# EAGLE library part ESCV! (library untitled)
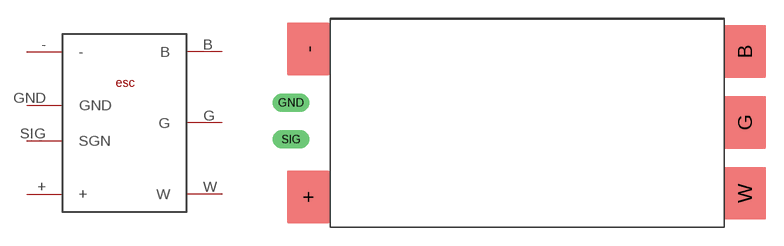
[diagram p0: symbol with the pads of ESCV!; footprint ESCV!]

Designator prefix -

## ESCV!  [ESCV!]
+  +
-  -
B  B
G  G
GND  GND
SIG  SGN
W  W

## Footprint ESCV! (pad centres in mm)
smd 3.5 x 4.3: + -1.8,2.5; - -1.8,14.6; B 33.9,14.4; G 33.9,8.6; W 33.9,2.8
drill 1 long: GND -3.2,10.2; SIG -3.2,7.2